# Altium schematic symbol library BasicLib.SchLib: 24 symbols
Pins are listed as number, name and electrical type; pins without a type are passive.

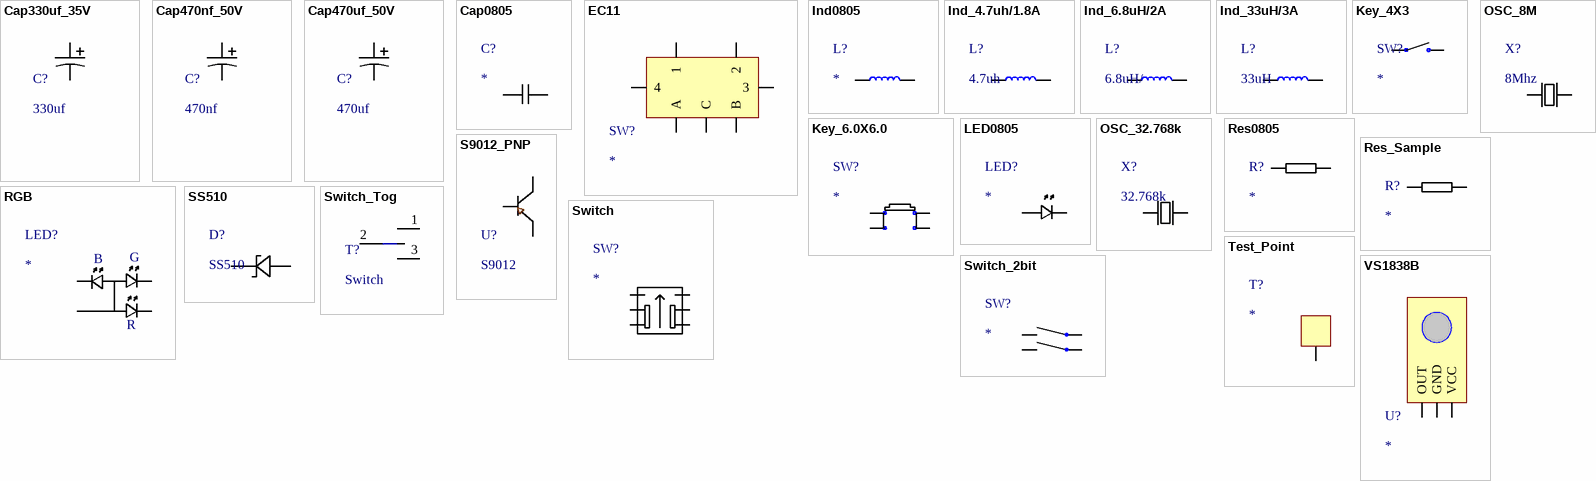
[diagram p0: symbols Cap330uf_35V to VS1838B]

## Cap330uf_35V
designator C?, comment 330uf
footprint CAPACITY_330UF_TH
pins: 1, 2

## Cap470nf_50V
designator C?, comment 470nf
footprint CAPACITY_470nf_TH
pins: 1, 2

## Cap470uf_50V
designator C?, comment 470uf
footprint CAPACITY_470UF_TH
pins: 1, 2

## Cap0805
designator C?
footprint Capacity_0805_SMD
pins: 1, 2

## EC11
designator SW?
footprint SW_EC11
pins: 1, 2, 3, 4, A, B, C

## Ind0805
designator L?
footprint Inductance_0805_SMD
pins: 1, 2

## Ind_4.7uh/1.8A
designator L?, comment 4.7uh
footprint Inductance_4.7uh/6.8uh_SMD
pins: 1, 2

## Ind_6.8uH/2A
designator L?, comment 6.8uH/
footprint Inductance_4.7uh/6.8uh_SMD
pins: 1, 2

## Ind_33uH/3A
designator L?, comment 33uH
footprint Inductance_33uH_SMD
pins: 1, 2

## Key_4X3
designator SW?
footprint SW_4X3_SMD
pins: 1, 2

## Key_6.0X6.0
designator SW?
footprint KEY_TOUCH_6.0*6.0_SMD
pins: 1, 2, 3, 4

## LED0805
designator LED?
footprint LED_0805_SMD
pins: 1, 2

## OSC_8M
designator X?, comment 8Mhz
footprint OSC_8M_SMD
pins: 1, 2

## OSC_32.768k
designator X?, comment 32.768k
footprint OSC_32.768k_TH
pins: 1, 2

## Res0805
designator R?
footprint Resistance_0805_SMD
pins: 1, 2

## Res_Sample
designator R?
footprint Resistance_Sample_SMD
pins: 1, 2

## RGB
designator LED?
footprint LED_RGB_SMD
pins: 1, 2, 3, 4
text: B; G; R

## S9012_PNP
designator U?, comment S9012
footprint SOT-23
pins: 1, 2, 3

## SS510
designator D?
footprint SS510
pins: 1, 2

## Switch
designator SW?
footprint SW_5.8X5.8X10_DIP
pins: 1, 2, 3, 4, 5, 6

## Switch_2bit
designator SW?
footprint SW_2Bit_SMD
pins: 1, 2, 3, 4

## Switch_Tog
designator T?, comment Switch
footprint SW_TOG
pins: 1 22, 2, 3 23

## Test_Point
designator T?
footprint Test_Point
pins: 1

## VS1838B
designator U?
footprint VS1838B
pins: 1 OUT, 2 GND, 3 VCC